# EAGLE library part SI8663BB-B-IU (library ruark2)
General Purpose Digital Isolator 2500Vrms 6 Channel (3IN, 3OUT) 150Mbps 50kV/µs CMTI 16-SSOP (0.154", 3.90mm Width)
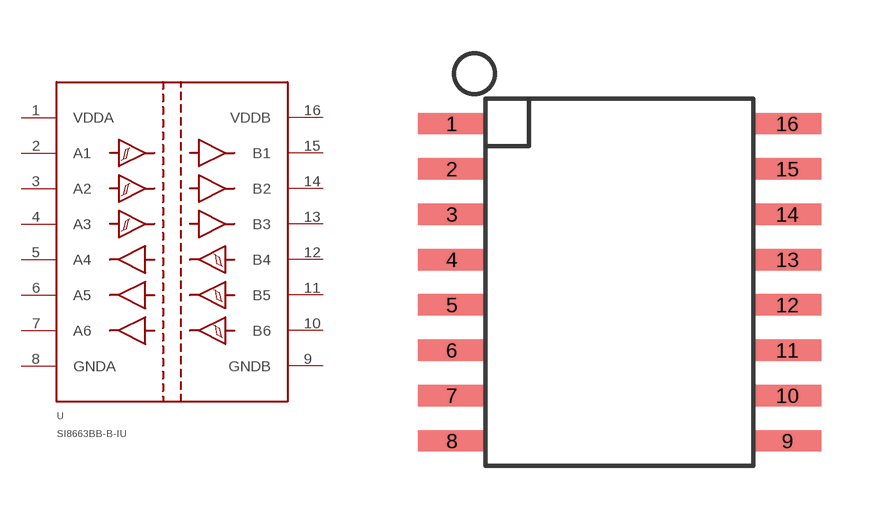
[diagram p102: symbol with the pads of SOIC16W; footprint SOIC16W]

Designator prefix U

## SI8663BB-B-IU (PARTNO: 336-4304-ND; VALUE: SI8663)  [SOIC16W]
1  VDDA
2  A1
3  A2
4  A3
5  A4
6  A5
7  A6
8  GNDA
9  GNDB
10  B6
11  B5
12  B4
13  B3
14  B2
15  B1
16  VDDB

## Footprint SOIC16W (pad centres in mm)
smd 1.9 x 0.6: 1 -4.7,4.445; 2 -4.7,3.175; 3 -4.7,1.905; 4 -4.7,0.635; 5 -4.7,-0.635; 6 -4.7,-1.905; 7 -4.7,-3.175; 8 -4.7,-4.445; 9 4.7,-4.445; 10 4.7,-3.175; 11 4.7,-1.905; 12 4.7,-0.635; 13 4.7,0.635; 14 4.7,1.905; 15 4.7,3.175; 16 4.7,4.445